# Altium footprint library Capacitors - Aluminum - Electrolytic SMT.PcbLib: 9 footprints
Each footprint in its own frame and in the unit in brackets; x right, y up, seen from the top. Pads: shape width x height; smd on the part's side, far side on the other; paste and mask are expansions set on the pad; w line width, h text height; cw(c..) or ccw(c..) is an arc to the next point about the centre after c.
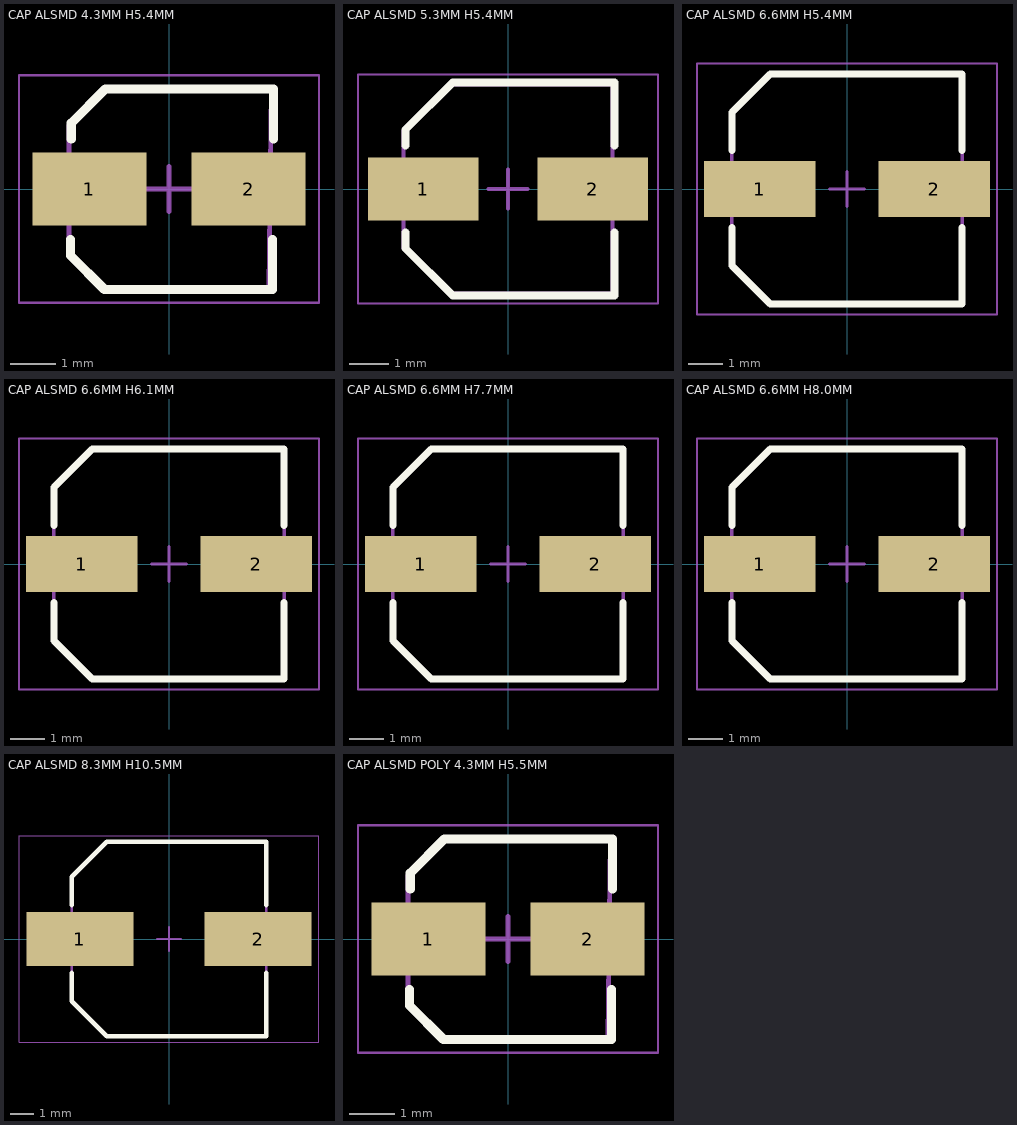
[diagram p0: the footprints below, top view; thin cyan lines are the x and y axes]

## CAP ALSMD 4.3MM H5.4MM [mm] "Aluminum Electrolytic Capacitor, Body 4.30x4.30x5.40mm, IPC Low Density"
height 5.4
pads (2):
  rect 2.5x1.6 smd: 1(-1.75,0) 2(1.75,0)
Top Overlay:
  lines w0.2: -2.17,-1.112 -2.17,-1.462 -1.42,-2.212 2.28,-2.212 2.28,-1.112 ; -2.15,1.1 -2.15,1.45 -1.4,2.2 2.3,2.2 2.3,1.1
Mechanical 13:
  lines w0.1: -2.2,-1.4 -1.4,-2.2 2.2,-2.2 2.25,2.2 -1.4,2.2 -2.2,1.4 -2.2,-1.4
Mechanical 15:
  lines w0.05: -3.3,-2.5 -3.3,2.5 3.3,2.5 3.3,-2.5 -3.3,-2.5
  lines w0.1: -0.5,0 0.5,0 ; 0,-0.5 0,0.5
3D body "CAP ALSMD - 4.3 x 4.3 x 5.4.step": height 5.4, standoff 0, extent -2.3,-2.2 2.3,2.2

## CAP ALSMD 5.3MM H5.4MM [mm] "Aluminum Electrolytic Capacitor, Body 5.30x5.30x5.40mm, IPC Low Density"
height 5.4
pads (2):
  rect 2.8x1.6 smd: 1(-2.15,0) 2(2.15,0)
Top Overlay:
  lines w0.2: -2.6,-1.1 -2.6,-1.5 -1.4,-2.7 2.7,-2.7 2.7,-1.1 ; -2.6,1.1 -2.6,1.5 -1.4,2.7 2.7,2.7 2.7,1.1
Mechanical 13:
  lines w0.1: -2.65,-1.5 -2.65,1.475 -1.475,2.65 2.65,2.65 2.65,-2.65 -1.5,-2.65 -2.65,-1.5
Mechanical 15:
  lines w0.05: -3.8,-2.9 -3.8,2.9 3.8,2.9 3.8,-2.9 -3.8,-2.9
  lines w0.1: -0.5,0 0.5,0 ; 0,-0.5 0,0.5
3D body "CAP ALSMD - 5.3 x 5.3 x 5.4.step": height 5.4, standoff 0, extent -2.95,-2.7 2.95,2.7

## CAP ALSMD 6.6MM H5.4MM [mm] "Aluminum Electrolytic Capacitor, Body 6.60x6.60x5.40mm, IPC Low Density"
height 5.4
pads (2):
  rect 3.2x1.6 smd: 1(-2.5,0) 2(2.5,0)
Top Overlay:
  lines w0.2: -3.3,-1.1 -3.3,-2.2 -2.2,-3.3 3.3,-3.3 3.3,-1.1 ; -3.3,1.1 -3.3,2.2 -2.2,3.3 3.3,3.3 3.3,1.1
Mechanical 13:
  lines w0.1: -3.3,-2.2 -2.2,-3.3 3.3,-3.3 3.3,3.3 -2.2,3.3 -3.3,2.2 -3.3,-2.2
Mechanical 15:
  lines w0.05: -4.3,-3.6 -4.3,3.6 4.3,3.6 4.3,-3.6 -4.3,-3.6
  lines w0.1: -0.5,0 0.5,0 ; 0,-0.5 0,0.5
3D body "CAP ALSMD - 6.6 x 6.6 x 5.4.step": height 5.4, standoff 0, extent -3.5,-3.3 3.5,3.3

## CAP ALSMD 6.6MM H6.1MM [mm] "Aluminum Electrolytic Capacitor, Body 6.60x6.60x6.10mm, IPC Low Density"
height 6.1
pads (2):
  rect 3.2x1.6 smd: 1(-2.5,0) 2(2.5,0)
Top Overlay:
  lines w0.2: -3.3,-1.1 -3.3,-2.2 -2.2,-3.3 3.3,-3.3 3.3,-1.1 ; -3.3,1.1 -3.3,2.2 -2.2,3.3 3.3,3.3 3.3,1.1
Mechanical 13:
  lines w0.1: -3.3,-2.2 -2.2,-3.3 3.3,-3.3 3.3,3.3 -2.2,3.3 -3.3,2.2 -3.3,-2.2
Mechanical 15:
  lines w0.05: -4.3,-3.6 -4.3,3.6 4.3,3.6 4.3,-3.6 -4.3,-3.6
  lines w0.1: -0.5,0 0.5,0 ; 0,-0.5 0,0.5
3D body "CAP ALSMD - 6.6 x 6.6 x 6.1.step": height 6.1, standoff 0, extent -3.5,-3.3 3.5,3.3

## CAP ALSMD 6.6MM H7.7MM [mm] "Aluminum Electrolytic Capacitor, Body 6.60x6.60x7.70mm, IPC Low Density"
height 7.7
pads (2):
  rect 3.2x1.6 smd: 1(-2.5,0) 2(2.5,0)
Top Overlay:
  lines w0.2: -3.3,-1.1 -3.3,-2.2 -2.2,-3.3 3.3,-3.3 3.3,-1.1 ; -3.3,1.1 -3.3,2.2 -2.2,3.3 3.3,3.3 3.3,1.1
Mechanical 13:
  lines w0.1: -3.3,-2.2 -2.2,-3.3 3.3,-3.3 3.3,3.3 -2.2,3.3 -3.3,2.2 -3.3,-2.2
Mechanical 15:
  lines w0.05: -4.3,-3.6 -4.3,3.6 4.3,3.6 4.3,-3.6 -4.3,-3.6
  lines w0.1: -0.5,0 0.5,0 ; 0,-0.5 0,0.5
3D body "CAP ALSMD - 6.6 x 6.6 x 7.7.step": height 7.7, standoff 0, extent -3.6,-3.3 3.6,3.3

## CAP ALSMD 6.6MM H8.0MM [mm] "Aluminum Electrolytic Capacitor, Body 6.60x6.60x8.0mm, IPC Low Density"
height 8
pads (2):
  rect 3.2x1.6 smd: 1(-2.5,0) 2(2.5,0)
Top Overlay:
  lines w0.2: -3.3,-1.1 -3.3,-2.2 -2.2,-3.3 3.3,-3.3 3.3,-1.1 ; -3.3,1.1 -3.3,2.2 -2.2,3.3 3.3,3.3 3.3,1.1
Mechanical 13:
  lines w0.1: -3.3,-2.2 -3.3,2.2 -2.2,3.3 3.3,3.3 3.3,-3.3 -2.2,-3.3 -3.3,-2.2
Mechanical 15:
  lines w0.05: -4.3,-3.6 4.3,-3.6 4.3,3.6 -4.3,3.6 -4.3,-3.6
  lines w0.1: -0.5,0 0.5,0 ; 0,-0.5 0,0.5
3D body "CAP ALSMD - 6.6 x 6.6 x 8.step": height 8, standoff 0, extent -3.5,-3.3 3.5,3.3

## CAP ALSMD 8.3MM H10.5MM [mm] "Aluminum Electrolytic Capacitor, Body 8.30x8.30x10.50mm, IPC Low Density"
height 10.5
pads (2):
  rect 4.55x2.3 smd: 1(-3.8,0) 2(3.8,0)
Top Overlay:
  lines w0.2: -4.15,-1.45 -4.15,-2.65 -2.65,-4.15 4.15,-4.15 4.15,-1.45 ; -4.15,1.45 -4.15,2.65 -2.65,4.15 4.15,4.15 4.15,1.45
Mechanical 13:
  lines w0.1: -4.15,-2.65 -2.65,-4.15 4.15,-4.15 4.15,4.15 -2.65,4.15 -4.15,2.65 -4.15,-2.65
Mechanical 15:
  lines w0.05: -6.4,-4.4 -6.4,4.4 6.4,4.4 6.4,-4.4 -6.4,-4.4
  lines w0.1: -0.5,0 0.5,0 ; 0,-0.5 0,0.5
3D body "CAP ALUM 8_3mm.STEP": height 10.5, standoff 0, extent -4.95,-4.15 4.95,4.15

## CAP ALSMD POLY 4.3MM H5.5MM [mm] "Aluminum Polymer Capacitor, Body 4.30x4.30x5.50mm, IPC Low Density"
height 5.5
pads (2):
  rect 2.5x1.6 smd: 1(-1.75,0) 2(1.75,0)
Top Overlay:
  lines w0.2: -2.17,-1.112 -2.17,-1.462 -1.42,-2.212 2.28,-2.212 2.28,-1.112 ; -2.15,1.1 -2.15,1.45 -1.4,2.2 2.3,2.2 2.3,1.1
Mechanical 13:
  lines w0.1: -2.2,-1.4 -1.4,-2.2 2.2,-2.2 2.25,2.2 -1.4,2.2 -2.2,1.4 -2.2,-1.4
Mechanical 15:
  lines w0.05: -3.3,-2.5 -3.3,2.5 3.3,2.5 3.3,-2.5 -3.3,-2.5
  lines w0.1: -0.5,0 0.5,0 ; 0,-0.5 0,0.5
3D body "CAP ALSMD - POLY - 4.3 x 4.3 x 5.5.step": height 5.5, standoff 0, extent -2.3,-2.2 2.3,2.2

## PCBComponent_1 [mm]